# Altium schematic symbol library BoilerAutoFill.SchLib: 11 symbols
Pins are listed as number, name and electrical type; pins without a type are passive.

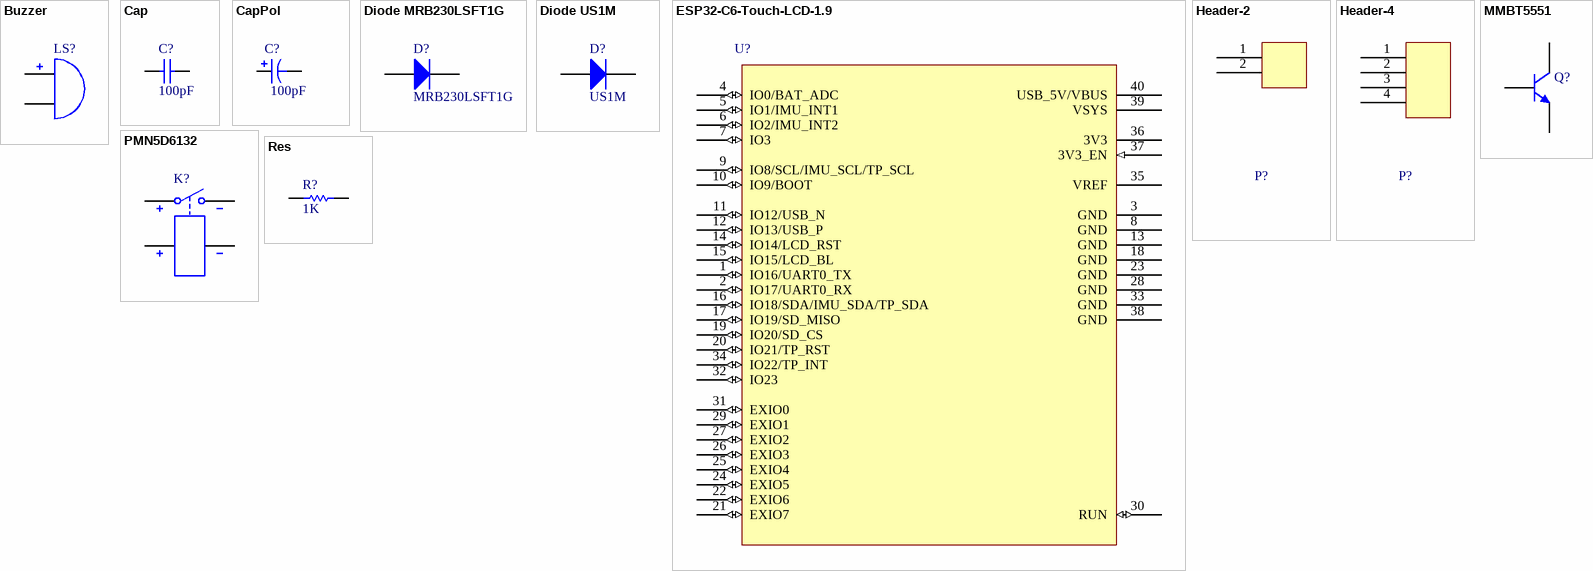
[diagram p0: symbols Buzzer to Res]

## Buzzer
designator LS?  (value not drawn)
footprint Buzzer-2310
pins: N, P

## Cap
designator C?  value 100pF  (hidden comment: Cap)
Capacitor; Published: 8-Jun-2000; LatestRevisionDate: 17-Jul-2002; LatestRevisionNote: Re-released for DXP Platform.; PackageReference: RAD-0.3; Publisher: Altium Limited; PackageDescription: Radial Cap, Thru-Hole; 2 Leads; 0.3 in Pin Spacing
simulation model CAP (Capacitor)
signal-integrity model Cap
footprint CAP0603/M (Chip Capacitor, 2-Leads, Body 1.60x0.80mm, IPC Medium Density)
pins: 1, 2

## CapPol
designator C?, comment value 100pF  (hidden comment: Cap Pol)
Polarized Capacitor; Published: 8-Jun-2000; LatestRevisionDate: 17-Jul-2002; LatestRevisionNote: Re-released for DXP Platform.; PackageReference: POLAR0.8; Publisher: Altium Limited; PackageDescription: Polarized Capacitor; 2 Leads
simulation model CAP (Capacitor)
signal-integrity model Cap Pol
footprint CAPMP6032/M (Molded Capacitor, 2-Leads, Body 6.00x3.25mm, IPC Medium Density)
footprint CAPMP6032/L (Molded Capacitor, 2-Leads, Body 6.00x3.25mm, IPC Low Density)
pins: N, P
1 alternate drawing of the same symbol

## Diode MRB230LSFT1G
designator D?, comment MRB230LSFT1G
Schottky Barrier Rectifier 2A 30V; ComponentLink1Description: Manufacturer Link; ComponentLink1URL: http://www.fairchildsemi.com/; ComponentLink2Description: Datasheet; ComponentLink2URL: http://www.fairchildsemi.com/ds/1N%2F1N4934.pdf
footprint SOD-123FL/L (SODFL, 2-Leads, Body 1.65x3.60mm, IPC Low Density)
footprint SOD-123FL/M (SODFL, 2-Leads, Body 1.65x3.60mm, IPC Medium Density)
pins: N K, P A

## Diode US1M
designator D?, comment US1M
1 Amp Ultra Fast Rectifier SMA; ComponentLink1Description: Manufacturer Link; ComponentLink1URL: http://www.fairchildsemi.com/; ComponentLink2Description: Datasheet; ComponentLink2URL: http://www.fairchildsemi.com/ds/1N%2F1N4934.pdf
footprint DO-214AC/L (Molded Diode, 2-Leads, Body 4.25x2.60mm, IPC Low Density)
footprint DO-214AC/M (Molded Diode, 2-Leads, Body 4.25x2.60mm, IPC Medium Density)
pins: N K, P A

## ESP32-C6-Touch-LCD-1.9
designator U?
WaveShare ESP32-C6-Touch-LCD-1.9
footprint ESP32-C6-Touch-LCD-1.9_Socket
pins: 1 IO16/UART0_TX (io), 2 IO17/UART0_RX (io), 3 GND (power), 4 IO0/BAT_ADC (io), 5 IO1/IMU_INT1 (io), 6 IO2/IMU_INT2 (io), 7 IO3 (io), 8 GND (power), 9 IO8/SCL/IMU_SCL/TP_SCL (io), 10 IO9/BOOT (io), 11 IO12/USB_N (io), 12 IO13/USB_P (io), 13 GND (power), 14 IO14/LCD_RST (io), 15 IO15/LCD_BL (io), 16 IO18/SDA/IMU_SDA/TP_SDA (io), 17 IO19/SD_MISO (io), 18 GND (power), 19 IO20/SD_CS (io), 20 IO21/TP_RST (io), 21 EXIO7 (io), 22 EXIO6 (io), 23 GND (power), 24 EXIO5 (io), 25 EXIO4 (io), 26 EXIO3 (io), 27 EXIO2 (io), 28 GND (power), 29 EXIO1 (io), 30 RUN (io), 31 EXIO0 (io), 32 IO23 (io), 33 GND (power), 34 IO22/TP_INT (io), 35 VREF (power), 36 3V3 (power), 37 3V3_EN (in), 38 GND (power), 39 VSYS (power), 40 USB_5V/VBUS (power)

## Header-2
designator P?
Header, 2-Pin
footprint KEFA/KF128L-3.81-02P
pins: 1, 2

## Header-4
designator P?
Header, 4-Pin
footprint KEFA/KF128L-3.81-04P
pins: 1, 2, 3, 4

## MMBT5551
designator Q?, comment NPN  (value not drawn)
NPN Bipolar Transistor
simulation model NPN
signal-integrity model NPN
footprint SOT-23/M (SOT23, 3-Leads, Body 2.90x2.45mm, Pitch 0.95mm, IPC Medium Density)
pins: B, C, E

## PMN5D6132
designator K?, comment ENMG Solid State Relay  (value not drawn)
ENMG Solid State Relay PMN5D6132
footprint PMN5D6132 (ENMG Solid State Relay PMN5D6132)
pins: 1, 2, 3, 4

## Res
designator R?  value 1K  (hidden comment: Res)
Resistor; Published: 8-Jun-2000; LatestRevisionDate: 17-Jul-2002; LatestRevisionNote: Re-released for DXP Platform.; PackageReference: AXIAL-0.3; Publisher: Altium Limited; PackageDescription: Axial Device, Thru-Hole; 2 Leads; 0.3 in Pin Spacing
simulation model RESISTOR (Resistor)
signal-integrity model Res
footprint RES0603/M (Chip Resistor, 2-Leads, Body 1.60x0.80mm, IPC Medium Density)
footprint RES2512/L (Chip Resistor, 2-Leads, Body 6.35x3.10mm, IPC Low Density)
pins: 1, 2